# Altium footprint library CapPol_Al_PCV1D331MCL2GS.PcbLib: 1 footprints
Each footprint in its own frame and in the unit in brackets; x right, y up, seen from the top. Pads: shape width x height; smd on the part's side, far side on the other; paste and mask are expansions set on the pad; w line width, h text height; cw(c..) or ccw(c..) is an arc to the next point about the centre after c.
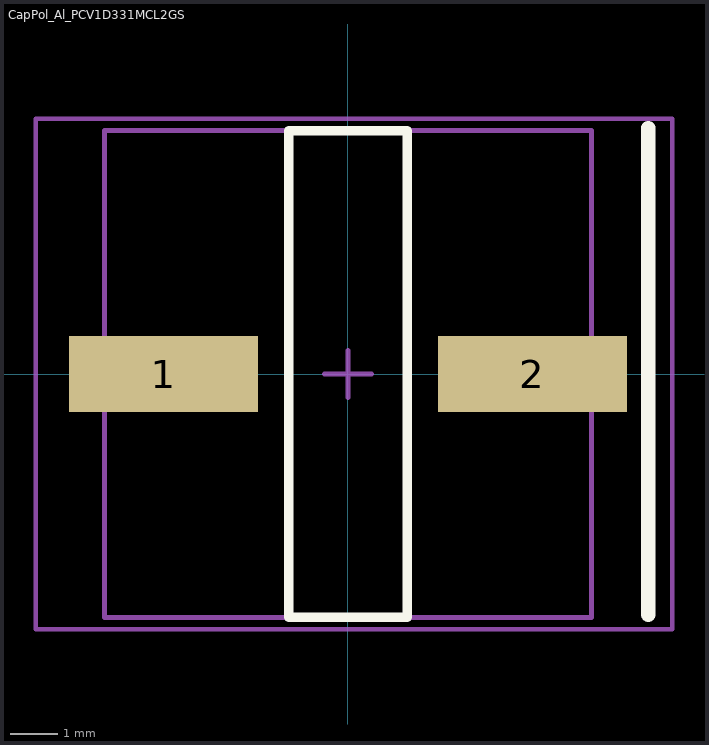
[diagram p0: the footprint, top view; thin cyan lines are the x and y axes]

## CapPol_Al_PCV1D331MCL2GS [mm]
height 10
pads (2):
  rect 4x1.6 smd: 1(-3.9,0) 2(3.9,0)
Top Overlay:
  lines w0.2: -1.25,-5.15 1.25,-5.15 1.25,5.15 -1.25,5.15 -1.25,-5.15
  lines w0.3: 6.35,-5.093 6.35,5.207
Mechanical 13:
  lines w0.1: -5.15,-5.15 5.15,-5.15 5.15,5.15 -5.15,5.15 -5.15,-5.15
Mechanical 15:
  lines w0.1: -0.5,0 0.5,0 ; 0,-0.5 0,0.5 ; -6.604,-5.4 6.858,-5.4 6.858,5.4 -6.604,5.4 -6.604,-5.4
3D body: height 10, standoff 0, extent -5.15,-5.15 5.15,5.15